# Altium schematic symbol library stm_copter.SchLib: 36 symbols
Pins are listed as number, name and electrical type; pins without a type are passive.

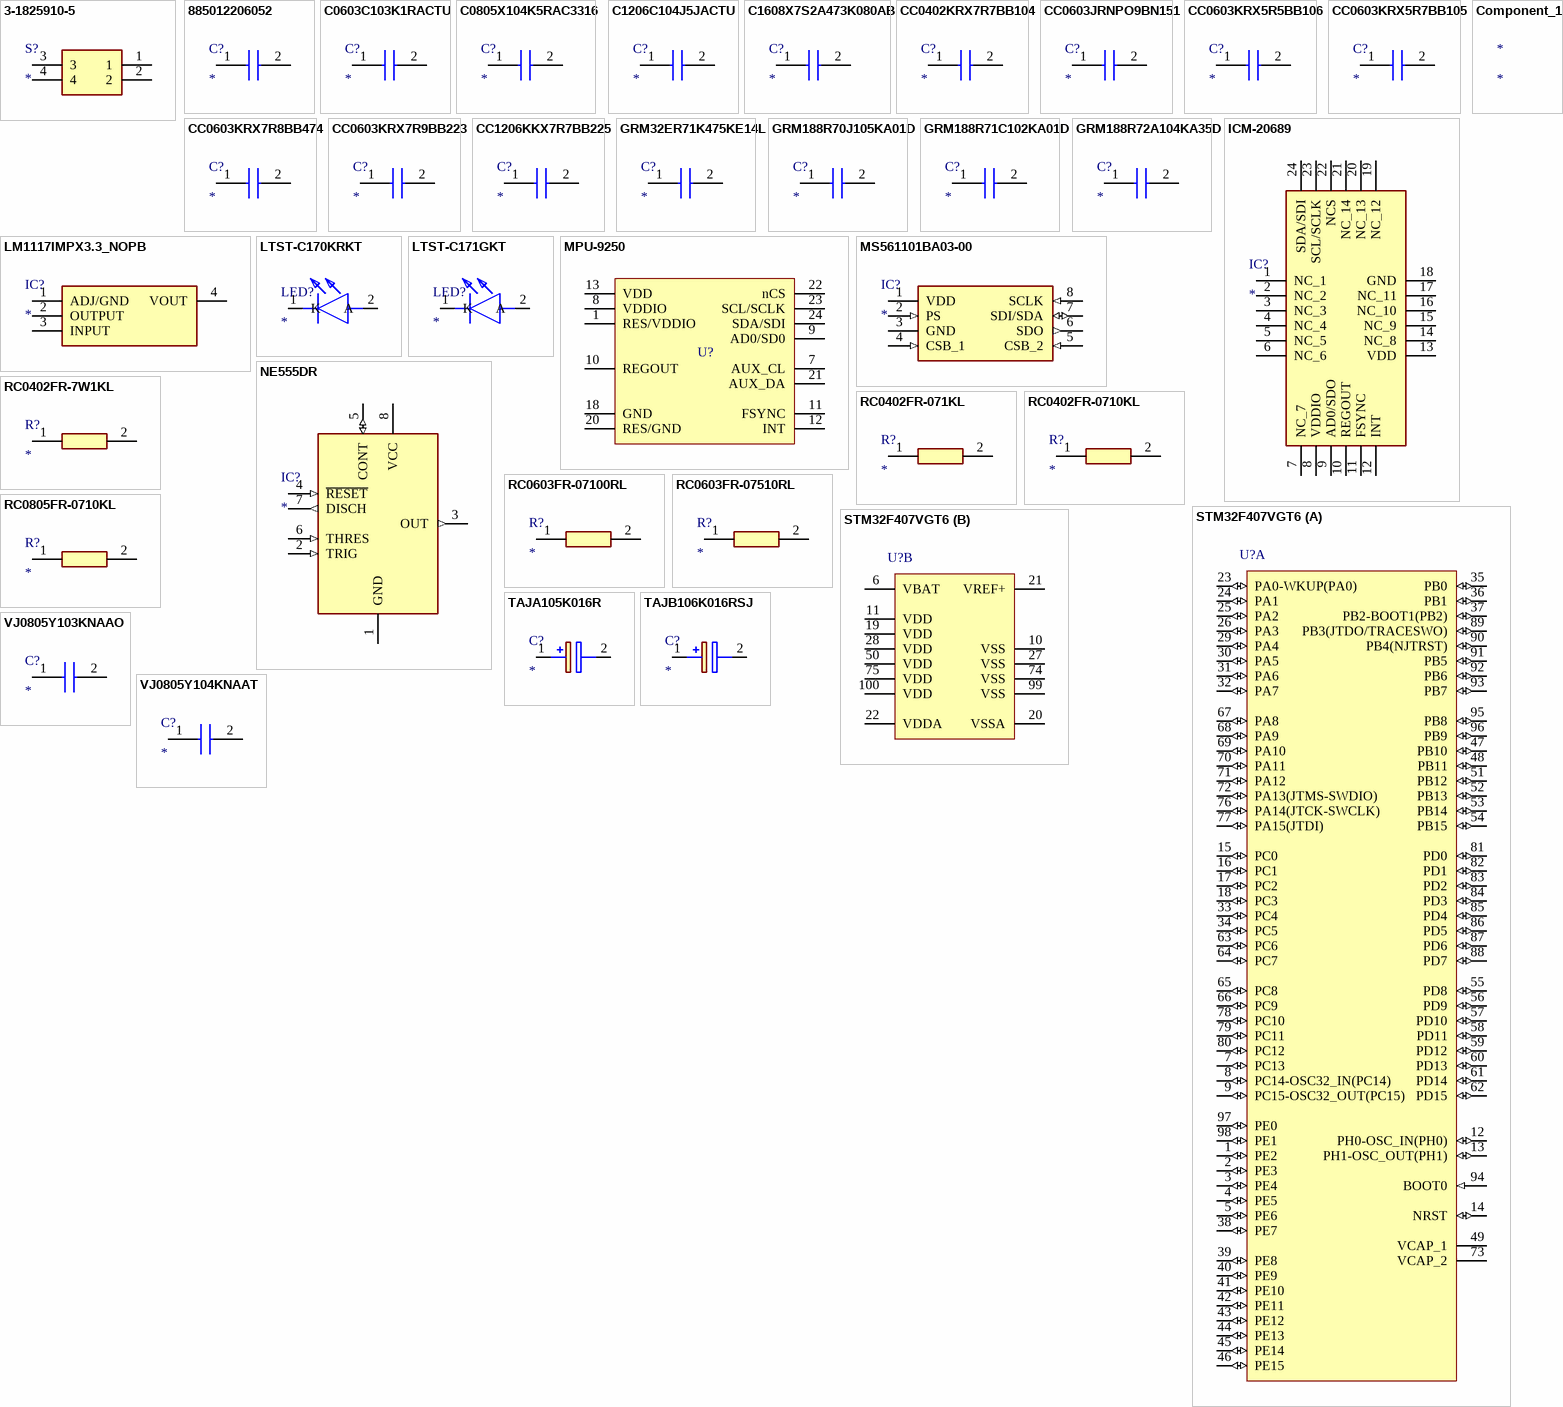
[diagram p0: symbols 3-1825910-5 to VJ0805Y104KNAAT]

## 3-1825910-5
designator S?
Switch; Manufacturer_Name: TE Connectivity; Manufacturer_Part_Number: 3-1825910-5; Allied_Number: R1117785; Datasheet Link: http://www.te.com/commerce/DocumentDelivery/DDEController?Action=srchrtrv&DocNm=1825910&DocType=Customer+Drawing&DocLang=English&DocFormat=pdf&PartCntxt=3-1825910-5; Mouser Part Number: N/A; Mouser Price/Stock: https://www.mouser.com/Search/Refine.aspx?Keyword=N%2FA; RS Part Number: 4791485; RS Price/Stock: https://uk.rs-online.com/web/p/products/4791485; Allied Price/Stock: http://www.alliedelec.com/te-connectivity-3-1825910-5/R1117785/
footprint 3-1825910-5
pins: 1, 2, 3, 4

## 885012206052
designator C?
Capacitor; Manufacturer_Name: Wurth Elektronik; Manufacturer_Part_Number: 885012206052; Datasheet Link: https://katalog.we-online.com/pbs/datasheet/885012206052.pdf; Height: 0.87mm; Mouser Part Number: 710-885012206052; Mouser Price/Stock: https://www.mouser.com/Search/Refine.aspx?Keyword=710-885012206052; RS Part Number: 8392833P; RS Price/Stock: http://uk.rs-online.com/web/p/products/8392833P
footprint CAPC1608X87N
pins: 1, 2

## C0603C103K1RACTU
designator C?
Capacitor; Manufacturer_Name: Kemet; Manufacturer_Part_Number: C0603C103K1RACTU; Allied_Number: 70096965; Mouser Part Number: 80-C0603C103K1R; Mouser Price/Stock: https://www.mouser.com/Search/Refine.aspx?Keyword=80-C0603C103K1R; RS Part Number: 8015378; RS Price/Stock: https://uk.rs-online.com/web/p/products/8015378; Allied Price/Stock: https://www.alliedelec.com/kemet-c0603c103k1ractu/70096965/
footprint CAPC1608X85N
pins: 1 C1, 2 C2

## C0805X104K5RAC3316
designator C?
Capacitor; Manufacturer_Name: Kemet; Manufacturer_Part_Number: C0805X104K5RAC3316; Allied_Number: 71763471; Datasheet Link: https://content.kemet.com/datasheets/KEM_C1013_X7R_FT-CAP_SMD.pdf; Height: 0.98mm; Mouser Part Number: 80-C0805X104K5R3316; Mouser Price/Stock: https://www.mouser.com/Search/Refine.aspx?Keyword=80-C0805X104K5R3316; RS Part Number: 1882180; RS Price/Stock: http://uk.rs-online.com/web/p/products/1882180; Allied Price/Stock: https://www.alliedelec.com/kemet-c0805x104k5rac3316/71763471/
footprint CAPC2012X98N
pins: 1, 2

## C1206C104J5JACTU
designator C?
Capacitor; Manufacturer_Name: Kemet; Manufacturer_Part_Number: C1206C104J5JACTU; Datasheet Link: https://api.kemet.com/component-edge/download/datasheet/C1206C104J5JACTU.pdf; Height: 1.35mm; Mouser Part Number: 80-C1206C104J5J; Mouser Price/Stock: https://www.mouser.com/Search/Refine.aspx?Keyword=80-C1206C104J5J; RS Part Number: 1392865P; RS Price/Stock: http://uk.rs-online.com/web/p/products/1392865P
footprint CAPC3216X135N
pins: 1, 2

## C1608X7S2A473K080AB
designator C?
Capacitor; Manufacturer_Name: TDK; Manufacturer_Part_Number: C1608X7S2A473K080AB; Datasheet Link: https://product.tdk.com/info/en/catalog/datasheets/mlcc_commercial_midvoltage_en.pdf; Height: 0.8mm; Mouser Part Number: 810-C1608X7S2A473K; Mouser Price/Stock: https://www.mouser.com/Search/Refine.aspx?Keyword=810-C1608X7S2A473K; RS Part Number: 9040259P; RS Price/Stock: http://uk.rs-online.com/web/p/products/9040259P
footprint CAPC1608X80N
pins: 1, 2

## CC0402KRX7R7BB104
designator C?
Capacitor; Manufacturer_Name: YAGEO (PHYCOMP); Manufacturer_Part_Number: CC0402KRX7R7BB104; Datasheet Link: http://www.datasheets360.com/pdf/-5354154806277341459; Height: 0.55mm; Mouser Part Number: 603-CC402KRX7R7BB104; Mouser Price/Stock: https://www.mouser.com/Search/Refine.aspx?Keyword=603-CC402KRX7R7BB104; RS Part Number: 6169701; RS Price/Stock: http://uk.rs-online.com/web/p/products/6169701
footprint CAPC1005X55N
pins: 1, 2

## CC0603JRNPO9BN151
designator C?
Capacitor; Manufacturer_Name: YAGEO (PHYCOMP); Manufacturer_Part_Number: CC0603JRNPO9BN151; Datasheet Link: https://componentsearchengine.com/Datasheets/2/CC0603JRNPO9BN151.pdf; Height: 0.9mm; Mouser Part Number: 603-CC603JRNPO9BN151; Mouser Price/Stock: https://www.mouser.com/Search/Refine.aspx?Keyword=603-CC603JRNPO9BN151; RS Part Number: 6250251; RS Price/Stock: https://uk.rs-online.com/web/p/products/6250251
footprint CAPC1608X90N
pins: 1, 2

## CC0603KRX5R5BB106
designator C?
Capacitor; Manufacturer_Name: YAGEO (PHYCOMP); Manufacturer_Part_Number: CC0603KRX5R5BB106; Datasheet Link: http://www.yageo.com/documents/recent/UPY-GPHC_X5R_4V-to-50V_25.pdf; Height: 0.95mm; Mouser Part Number: 603-CC603KRX5R5BB106; Mouser Price/Stock: https://www.mouser.com/Search/Refine.aspx?Keyword=603-CC603KRX5R5BB106
footprint CAPC1608X95N
pins: 1, 2

## CC0603KRX5R7BB105
designator C?
Capacitor; Manufacturer_Name: YAGEO (PHYCOMP); Manufacturer_Part_Number: CC0603KRX5R7BB105; Datasheet Link: https://componentsearchengine.com/Datasheets/2/CC0603KRX5R7BB105.pdf; Height: 0.9mm; Mouser Part Number: 603-CC603KRX5R7BB105; Mouser Price/Stock: https://www.mouser.com/Search/Refine.aspx?Keyword=603-CC603KRX5R7BB105
footprint CAPC1608X90N
pins: 1, 2

## CC0603KRX7R8BB474
designator C?
Capacitor; Manufacturer_Name: YAGEO (PHYCOMP); Manufacturer_Part_Number: CC0603KRX7R8BB474; Datasheet Link: https://www.mouser.com/datasheet/2/447/UPY-GPHC_X7R_6.3V-to-50V_18-1154002.pdf; Height: 0.9mm; Mouser Part Number: 603-CC603KRX7R8BB474; Mouser Price/Stock: https://www.mouser.com/Search/Refine.aspx?Keyword=603-CC603KRX7R8BB474
footprint CAPC1608X90N
pins: 1, 2

## CC0603KRX7R9BB223
designator C?
Capacitor; Manufacturer_Name: YAGEO (PHYCOMP); Manufacturer_Part_Number: CC0603KRX7R9BB223; Mouser Part Number: 603-CC603KRX7R9BB223; Mouser Price/Stock: https://www.mouser.com/Search/Refine.aspx?Keyword=603-CC603KRX7R9BB223
footprint CAPC1608X90N
pins: 1 C1, 2 C2

## CC1206KKX7R7BB225
designator C?
Capacitor; Manufacturer_Name: YAGEO (PHYCOMP); Manufacturer_Part_Number: CC1206KKX7R7BB225; Datasheet Link: https://componentsearchengine.com/Datasheets/1/CC1206KKX7R7BB225.pdf; Height: 1.25mm; Mouser Part Number: 603-CC126KKX7R7BB225; Mouser Price/Stock: https://www.mouser.com/Search/Refine.aspx?Keyword=603-CC126KKX7R7BB225; RS Part Number: 6698454P; RS Price/Stock: http://uk.rs-online.com/web/p/products/6698454P
footprint CAPC3216X125N
pins: 1, 2

## Component_1
designator *

## GRM32ER71K475KE14L
designator C?
Capacitor; Manufacturer_Name: Murata Electronics; Manufacturer_Part_Number: GRM32ER71K475KE14L; Datasheet Link: http://psearch.en.murata.com/capacitor/product/GRM32ER71E226KE15%23.pdf; Height: 2.7mm; Mouser Part Number: 81-GRM32ER71K475KE4L; Mouser Price/Stock: https://www.mouser.com/Search/Refine.aspx?Keyword=81-GRM32ER71K475KE4L; RS Part Number: 8851972P; RS Price/Stock: http://uk.rs-online.com/web/p/products/8851972P
footprint CAPC3225X270N
pins: 1, 2

## GRM188R70J105KA01D
designator C?
Capacitor; Manufacturer_Name: Murata Electronics; Manufacturer_Part_Number: GRM188R70J105KA01D; Datasheet Link: http://www.murata.com/~/media/webrenewal/support/library/catalog/products/capacitor/mlcc/c02e.pdf; Height: 0.9mm; Mouser Part Number: 81-GRM188R70J105KA01; Mouser Price/Stock: https://www.mouser.com/Search/Refine.aspx?Keyword=81-GRM188R70J105KA01; RS Part Number: 7492065P; RS Price/Stock: http://uk.rs-online.com/web/p/products/7492065P
footprint CAPC1608X90N
pins: 1, 2

## GRM188R71C102KA01D
designator C?
Capacitor; Manufacturer_Name: Murata Electronics; Manufacturer_Part_Number: GRM188R71C102KA01D; Datasheet Link: http://www.murata.com/~/media/webrenewal/support/library/catalog/products/capacitor/mlcc/c02e.pdf; Height: 0.9mm; Mouser Part Number: 81-GRM188R71C102KA1D; Mouser Price/Stock: https://www.mouser.com/Search/Refine.aspx?Keyword=81-GRM188R71C102KA1D; RS Part Number: 8836945; RS Price/Stock: https://uk.rs-online.com/web/p/products/8836945
footprint CAPC1608X90N
pins: 1, 2

## GRM188R72A104KA35D
designator C?
Capacitor; Manufacturer_Name: Murata Electronics; Manufacturer_Part_Number: GRM188R72A104KA35D; Datasheet Link: http://www.murata.com/~/media/webrenewal/support/library/catalog/products/capacitor/mlcc/c02e.pdf; Height: 0.9mm; Mouser Part Number: 81-GRM188R72A104KA35; Mouser Price/Stock: https://www.mouser.com/Search/Refine.aspx?Keyword=81-GRM188R72A104KA35; RS Part Number: 7235742P; RS Price/Stock: http://uk.rs-online.com/web/p/products/7235742P
footprint CAPC1608X90N
pins: 1, 2

## ICM-20689
designator IC?
Integrated Circuit; Manufacturer_Name: InvenSense Inc.; Manufacturer_Part_Number: ICM-20689; Datasheet Link: http://www.invensense.com/wp-content/uploads/2017/08/ICM-20689-v2.2-002.pdf; Height: 1mm; Mouser Part Number: 410-ICM-20689; Mouser Price/Stock: https://www.mouser.com/Search/Refine.aspx?Keyword=410-ICM-20689
footprint ICM20689
pins: 1 NC_1, 2 NC_2, 3 NC_3, 4 NC_4, 5 NC_5, 6 NC_6, 7 NC_7, 8 VDDIO, 9 AD0/SDO, 10 REGOUT, 11 FSYNC, 12 INT, 13 VDD, 14 NC_8, 15 NC_9, 16 NC_10, 17 NC_11, 18 GND, 19 NC_12, 20 NC_13, 21 NC_14, 22 NCS, 23 SCL/SCLK, 24 SDA/SDI

## LM1117IMPX3.3_NOPB
designator IC?
Integrated Circuit; Manufacturer_Name: Texas Instruments; Manufacturer_Part_Number: LM1117IMPX3.3/NOPB; Datasheet Link: http://www.ti.com/lit/ds/symlink/lm1117.pdf; Height: 1.8mm
footprint SOT230P700X180-4N
pins: 1 ADJ/GND, 2 OUTPUT, 3 INPUT, 4 VOUT

## LTST-C170KRKT
designator LED?
LED; Manufacturer_Name: Lite-On; Manufacturer_Part_Number: LTST-C170KRKT; Datasheet Link: https://componentsearchengine.com/Datasheets/1/LTST-C170KRKT.pdf; Height: 1.2mm; Mouser Part Number: 859-LTST-C170KRKT; Mouser Price/Stock: https://www.mouser.com/Search/Refine.aspx?Keyword=859-LTST-C170KRKT; RS Part Number: 6920916P; RS Price/Stock: http://uk.rs-online.com/web/p/products/6920916P
footprint LEDC2012X120N
pins: 1 K, 2 A

## LTST-C171GKT
designator LED?
LED; Manufacturer_Name: Lite-On; Manufacturer_Part_Number: LTST-C171GKT; Datasheet Link: https://media.digikey.com/pdf/Data%20Sheets/Lite-On%20PDFs/LTST-C171GKT.pdf; Height: 0.9mm; Mouser Part Number: 859-LTST-C171GKT; Mouser Price/Stock: https://www.mouser.com/Search/Refine.aspx?Keyword=859-LTST-C171GKT; RS Part Number: 6920935P; RS Price/Stock: http://uk.rs-online.com/web/p/products/6920935P
footprint LEDC2012X90N
pins: 1 K, 2 A

## MPU-9250
designator U?  (value not drawn)
footprint QFN40P300X300X105_HS-25L (QFN, 24-Leads, Body 3.00x3.00mm, Pitch 0.40mm, Thermal Pad 1.70x1.54mm, IPC High Density)
pins: 1 RES/VDDIO, 7 AUX_CL, 8 VDDIO, 9 AD0/SD0, 10 REGOUT, 11 FSYNC, 12 INT, 13 VDD, 18 GND, 20 RES/GND, 21 AUX_DA, 22 nCS, 23 SCL/SCLK, 24 SDA/SDI

## MS561101BA03-00
designator IC?
Integrated Circuit; Manufacturer_Name: TE Connectivity; Manufacturer_Part_Number: MS561101BA03-00; Datasheet Link: http://www.amsys.info/sheets/amsys.en.ms5611_01ba03.pdf; Height: 1mm; Mouser Part Number: 824-MS561101BA03-00; Mouser Price/Stock: https://www.mouser.com/Search/Refine.aspx?Keyword=824-MS561101BA03-00; RS Part Number: 8937130; RS Price/Stock: http://uk.rs-online.com/web/p/products/8937130
footprint SON125P300X500X100-8N
footprint SOIC127P600X175-8N
pins: 1 VDD (power), 2 PS (in), 3 GND (power), 4 CSB_1 (in), 5 CSB_2 (in), 6 SDO (out), 7 SDI/SDA (io), 8 SCLK (in)

## NE555DR
designator IC?
Integrated Circuit; Manufacturer_Name: Texas Instruments; Manufacturer_Part_Number: NE555DR; Datasheet Link: http://www.ti.com/lit/ds/symlink/ne555.pdf; Height: 1.75mm; Mouser Part Number: 595-NE555DR; Mouser Price/Stock: https://www.mouser.com/Search/Refine.aspx?Keyword=595-NE555DR; RS Part Number: 1218414; RS Price/Stock: http://uk.rs-online.com/web/p/products/1218414
footprint SOIC127P600X175-8N
pins: 1 GND (power), 2 TRIG (in), 3 OUT (out), 4 ~{RESET} (in), 5 CONT (io), 6 THRES (in), 7 DISCH (out), 8 VCC (power)

## RC0402FR-7W1KL
designator R?
Resistor; Manufacturer_Name: YAGEO (PHYCOMP); Manufacturer_Part_Number: RC0402FR-7W1KL; Datasheet Link: http://www.yageo.com/documents/recent/PYu-RC0402_51_RoHS_L_6_r.pdf; Height: 0.4mm; Mouser Part Number: 603-RC0402FR-7W1KL; Mouser Price/Stock: https://www.mouser.com/Search/Refine.aspx?Keyword=603-RC0402FR-7W1KL
footprint RESC1005X40N
pins: 1, 2

## RC0402FR-071KL
designator R?
Resistor; Manufacturer_Name: YAGEO (PHYCOMP); Manufacturer_Part_Number: RC0402FR-071KL; Datasheet Link: http://www.yageo.com/documents/recent/PYu-RC0402_51_RoHS_L_6_r.pdf; Height: 0.4mm; Mouser Part Number: 603-RC0402FR-071KL; Mouser Price/Stock: https://www.mouser.com/Search/Refine.aspx?Keyword=603-RC0402FR-071KL; RS Part Number: 6186122; RS Price/Stock: http://uk.rs-online.com/web/p/products/6186122
footprint RESC1005X40N
pins: 1, 2

## RC0402FR-0710KL
designator R?
Resistor; Manufacturer_Name: YAGEO (PHYCOMP); Manufacturer_Part_Number: RC0402FR-0710KL; Datasheet Link: http://www.yageo.com/documents/recent/PYu-RC0402_51_RoHS_L_6_r.pdf; Height: 0.4mm; Mouser Part Number: 603-RC0402FR-0710KL; Mouser Price/Stock: https://www.mouser.com/Search/Refine.aspx?Keyword=603-RC0402FR-0710KL; RS Part Number: 6185832; RS Price/Stock: http://uk.rs-online.com/web/p/products/6185832
footprint RESC1005X40N
pins: 1, 2

## RC0603FR-07100RL
designator R?
Resistor; Manufacturer_Name: YAGEO (PHYCOMP); Manufacturer_Part_Number: RC0603FR-07100RL; Datasheet Link: http://www.yageo.com/documents/recent/PYu-RC0603_51_RoHS_L_v5.pdf; Height: 0.55mm; Mouser Part Number: 603-RC0603FR-07100RL; Mouser Price/Stock: https://www.mouser.com/Search/Refine.aspx?Keyword=603-RC0603FR-07100RL; RS Part Number: 5048912; RS Price/Stock: http://uk.rs-online.com/web/p/products/5048912
footprint RESC1608X55N
pins: 1, 2

## RC0603FR-07510RL
designator R?
Resistor; Manufacturer_Name: YAGEO (PHYCOMP); Manufacturer_Part_Number: RC0603FR-07510RL; Datasheet Link: http://www.yageo.com/documents/recent/PYu-RC0603_51_RoHS_L_v5.pdf; Height: 0.55mm; Mouser Part Number: 603-RC0603FR-07510RL; Mouser Price/Stock: https://www.mouser.com/Search/Refine.aspx?Keyword=603-RC0603FR-07510RL; RS Part Number: 5047571; RS Price/Stock: http://uk.rs-online.com/web/p/products/5047571
footprint RESC1608X55N
pins: 1, 2

## RC0805FR-0710KL
designator R?
Resistor; Manufacturer_Name: YAGEO (PHYCOMP); Manufacturer_Part_Number: RC0805FR-0710KL; Datasheet Link: http://www.yageo.com/documents/recent/PYu-RC_Group_51_RoHS_L_10.pdf; Height: 0.6mm; Mouser Part Number: 603-RC0805FR-0710KL; Mouser Price/Stock: https://www.mouser.com/Search/Refine.aspx?Keyword=603-RC0805FR-0710KL; RS Part Number: 6185163; RS Price/Stock: http://uk.rs-online.com/web/p/products/6185163
footprint RESC2012X60N
pins: 1, 2

## STM32F407VGT6
designator U?
ARM Cortex-M4 32-bit MCU+FPU, 210 DMIPS, 1024 kB Flash, 192 kB Internal RAM, 82 I/Os, 100-pin LQFP, -40 to 85 degC, Tray; Manufacturer: STMicroelectronics; PartNumber: STM32F407VGT6; D/A Converter: 2x12-bit; FLASH Size (Prog) (kB): 1024; I/Os (High Current): 82; Internal RAM Size (kB): 192; Operating Frequency(F) (Processor speed) (MHz): 168; Supply Voltage(Vcc) max (V): 3.6; Supply Voltage(Vcc) min (V): 1.8; DatasheetVersion: Rev. 4; PackageVersion: Rev. 1, 06/2013; PackageReference: LQFP100; PackageDescription: 100-Pin Low Profile Quad Flat Package, 14 x 14 mm Body, 0.5 mm Pitch; Supplier 1: Digi-Key; Supplier Part Number 1: 497-11605-ND; Supplier 2: Farnell; Supplier Part Number 2: 2064368; Supplier 3: Newark; Supplier Part Number 3: 73T2333; Supplier 4: Mouser; Supplier Part Number 4: 511-STM32F407VGT6; Core: ARM Cortex-M4; Packing: Tray; Mounting Technology: Surface Mount; ComponentLink1Description: Manufacturer URL; ComponentLink1URL: http://www.st.com/web/en/home.html; ComponentLink2Description: Datasheet; ComponentLink2URL: http://www.st.com/st-web-ui/static/active/en/resource/technical/document/datasheet/DM00037051.pdf; ComponentLink3Description: Package Specification; ComponentLink3URL: http://www.st.com/st-web-ui/static/active/en/resource/technical/document/data_brief/DM00071938.pdf
footprint STM-LQFP100_L (Thin QFP, 100-Leads, Body 14x14mm, Pitch 0.5mm, IPC High Density)
footprint STM-LQFP100_L (Thin QFP, 100-Leads, Body 14x14mm, Pitch 0.5mm, IPC High Density)
footprint STM-LQFP100_M (Thin QFP, 100-Leads, Body 14x14mm, Pitch 0.5mm, IPC Low Density)
footprint STM-LQFP100_V (Thin QFP, 100-Leads, Body 14x14mm, Pitch 0.5mm, ST Recommended)
part A pins: 1 PE2 (io) "PE2/TRACECLK/FSMC_A23/ETH_MII_TXD3/EVENTOUT", 2 PE3 (io) "PE3/TRACED0/FSMC_A19/EVENTOUT", 3 PE4 (io) "PE4/TRACED1/FSMC_A20/DCMI_D4/EVENTOUT", 4 PE5 (io) "PE5/TRACED2/FSMC_A21/TIM9_CH1/DCMI_D6/EVENTOUT", 5 PE6 (io) "PE6/TRACED3/FSMC_A22/TIM9_CH2/DCMI_D7/EVENTOUT", 7 PC13 (io) "PC13/EVENTOUT/RTC_OUT,RTC_TAMP1,RTC_TS", 8 PC14-OSC32_IN(PC14) (io) "PC14-OSC32_IN(PC14)/EVENTOUT/OSC32_IN", 9 PC15-OSC32_OUT(PC15) (io) "PC15-OSC32_OUT(PC15)/EVENTOUT/OSC32_OUT", 12 PH0-OSC_IN(PH0) (io) "PH0-OSC_IN(PH0)/EVENTOUT/OSC_IN", 13 PH1-OSC_OUT(PH1) (io) "PH1-OSC_OUT(PH1)/EVENTOUT/OSC_OUT", 14 NRST (io), 15 PC0 (io) "PC0/OTG_HS_ULPI_STP/EVENTOUT/ADC123_IN10", 16 PC1 (io) "PC1/ETH_MDC/EVENTOUT/ADC123_IN11", 17 PC2 (io) "PC2/SPI2_MISO/OTG_HS_ULPI_DIR/ETH_MII_TXD2/I2S2ext_SD/EVENTOUT/ADC123_IN12", 18 PC3 (io) "PC3/SPI2_MOSI/I2S2_SD/OTG_HS_ULPI_NXT/ETH_MII_TX_CLK/EVENTOUT/ADC123_IN13", 23 PA0-WKUP(PA0) (io) "PA0-WKUP(PA0)/USART2_CTS/UART4_TX/ETH_MII_CRS/TIM2_CH1_ETR/TIM5_CH1/TIM8_ETR/EVENTOUT/ADC123_IN0/WKUP", 24 PA1 (io) "PA1/USART2_RTS/UART4_RX/ETH_RMII_REF_CLK/ETH_MII_RX_CLK/TIM5_CH2/TIM2_CH2/EVENTOUT/ADC123_IN1", 25 PA2 (io) "PA2/USART2_TX/TIM5_CH3/TIM9_CH1/TIM2_CH3/ETH_MDIO/EVENTOUT/ADC123_IN2", 26 PA3 (io) "PA3/USART2_RX/TIM5_CH4/TIM9_CH2/TIM2_CH4/OTG_HS_ULPI_D0/ETH_MII_COL/EVENTOUT/ADC123_IN3", 29 PA4 (io) "PA4/SPI1_NSS/SPI3_NSS/USART2_CK/DCMI_HSYNC/OTG_HS_SOF/I2S3_WS/EVENTOUT/ADC12_IN4/DAC_OUT1", 30 PA5 (io) "PA5/SPI1_SCK/OTG_HS_ULPI_CK/TIM2_CH1_ETR/TIM8_CH1N/EVENTOUT/ADC12_IN5/DAC_OUT2", 31 PA6 (io) "PA6/SPI1_MISO/TIM8_BKIN/TIM13_CH1/DCMI_PIXCLK/TIM3_CH1/TIM1_BKIN/EVENTOUT/ADC12_IN6", 32 PA7 (io) "PA7/SPI1_MOSI/TIM8_CH1N/TIM14_CH1/TIM3_CH2/ETH_MII_RX_DV/TIM1_CH1N/ETH_RMII_CRS_DV/EVENTOUT/ADC12_IN7", 33 PC4 (io) "PC4/ETH_RMII_RX_D0/ETH_MII_RX_D0/EVENTOUT/ADC12_IN14", 34 PC5 (io) "PC5/ETH_RMII_RX_D1/ETH_MII_RX_D1/EVENTOUT/ADC12_IN15", 35 PB0 (io) "PB0/TIM3_CH3/TIM8_CH2N/OTG_HS_ULPI_D1/ETH_MII_RXD2/TIM1_CH2N/EVENTOUT/ADC12_IN8", 36 PB1 (io) "PB1/TIM3_CH4/TIM8_CH3N/OTG_HS_ULPI_D2/ETH_MII_RXD3/TIM1_CH3N/EVENTOUT/ADC12_IN9", 37 PB2-BOOT1(PB2) (io) "PB2-BOOT1(PB2)/EVENTOUT", 38 PE7 (io) "PE7/FSMC_D4/TIM1_ETR/EVENTOUT", 39 PE8 (io) "PE8/FSMC_D5/TIM1_CH1N/EVENTOUT", 40 PE9 (io) "PE9/FSMC_D6/TIM1_CH1/EVENTOUT", 41 PE10 (io) "PE10/FSMC_D7/TIM1_CH2N/EVENTOUT", 42 PE11 (io) "PE11/FSMC_D8/TIM1_CH2/EVENTOUT", 43 PE12 (io) "PE12/FSMC_D9/TIM1_CH3N/EVENTOUT", 44 PE13 (io) "PE13/FSMC_D10/TIM1_CH3/EVENTOUT", 45 PE14 (io) "PE14/FSMC_D11/TIM1_CH4/EVENTOUT", 46 PE15 (io) "PE15/FSMC_D12/TIM1_BKIN/EVENTOUT", 47 PB10 (io) "PB10/SPI2_SCK/I2S2_CK/I2C2_SCL/USART3_TX/OTG_HS_ULPI_D3/ETH_MII_RX_ER/TIM2_CH3/EVENTOUT", 48 PB11 (io) "PB11/I2C2_SDA/USART3_RX/OTG_HS_ULPI_D4/ETH_RMII_TX_EN/ETH_MII_TX_EN/TIM2_CH4/EVENTOUT", 49 VCAP_1 (power), 51 PB12 (io) "PB12/SPI2_NSS/I2S2_WS/I2C2_SMBA/USART3_CK/TIM1_BKIN/CAN2_RX/OTG_HS_ULPI_D5/ETH_RMII_TXD0/ETH_MII_TXD0/OTG_HS_ID/EVENTOUT", 52 PB13 (io) "PB13/SPI2_SCK/I2S2_CK/USART3_CTS/TIM1_CH1N/CAN2_TX/OTG_HS_ULPI_D6/ETH_RMII_TXD1/ETH_MII_TXD1/EVENTOUT/OTG_HS_VBUS", 53 PB14 (io) "PB14/SPI2_MISO/TIM1_CH2N/TIM12_CH1/OTG_HS_DM/USART3_RTS/TIM8_CH2N/I2S2ext_SD/EVENTOUT", 54 PB15 (io) "PB15/SPI2_MOSI/I2S2_SD/TIM1_CH3N/TIM8_CH3N/TIM12_CH2/OTG_HS_DP/EVENTOUT/RTC_REFIN", 55 PD8 (io) "PD8/FSMC_D13/USART3_TX/EVENTOUT", 56 PD9 (io) "PD9/FSMC_D14/USART3_RX/EVENTOUT", 57 PD10 (io) "PD10/FSMC_D15/USART3_CK/EVENTOUT", 58 PD11 (io) "PD11/FSMC_CLE/FSMC_A16/USART3_CTS/EVENTOUT", 59 PD12 (io) "PD12/FSMC_ALE/FSMC_A17/TIM4_CH1/USART3_RTS/EVENTOUT", 60 PD13 (io) "PD13/FSMC_A18/TIM4_CH2/EVENTOUT", 61 PD14 (io) "PD14/FSMC_D0/TIM4_CH3/EVENTOUT", 62 PD15 (io) "PD15/FSMC_D1/TIM4_CH4/EVENTOUT", 63 PC6 (io) "PC6/I2S2_MCK/TIM8_CH1/SDIO_D6/USART6_TX/DCMI_D0/TIM3_CH1/EVENTOUT", 64 PC7 (io) "PC7/I2S3_MCK/TIM8_CH2/SDIO_D7/USART6_RX/DCMI_D1/TIM3_CH2/EVENTOUT", 65 PC8 (io) "PC8/TIM8_CH3/SDIO_D0/TIM3_CH3/USART6_CK/DCMI_D2/EVENTOUT", 66 PC9 (io) "PC9/I2S_CKIN/MCO2/TIM8_CH4/SDIO_D1/I2C3_SDA/DCMI_D3/TIM3_CH4/EVENTOUT", 67 PA8 (io) "PA8/MCO1/USART1_CK/TIM1_CH1/I2C3_SCL/OTG_FS_SOF/EVENTOUT", 68 PA9 (io) "PA9/USART1_TX/TIM1_CH2/I2C3_SMBA/DCMI_D0/EVENTOUT/OTG_FS_VBUS", 69 PA10 (io) "PA10/USART1_RX/TIM1_CH3/OTG_FS_ID/DCMI_D1/EVENTOUT", 70 PA11 (io) "PA11/USART1_CTS/CAN1_RX/TIM1_CH4/OTG_FS_DM/EVENTOUT", 71 PA12 (io) "PA12/USART1_RTS/CAN1_TX/TIM1_ETR/OTG_FS_DP/EVENTOUT", 72 PA13(JTMS-SWDIO) (io) "PA13(JTMS-SWDIO)/JTMS-SWDIO/EVENTOUT", 73 VCAP_2 (power), 76 PA14(JTCK-SWCLK) (io) "PA14(JTCK-SWCLK)/JTCK-SWCLK/EVENTOUT", 77 PA15(JTDI) (io) "PA15(JTDI)/JTDI/SPI3_NSS/I2S3_WS/TIM2_CH1_ETR/SPI1_NSS/EVENTOUT", 78 PC10 (io) "PC10/SPI3_SCK/I2S3_CK/UART4_TX/SDIO_D2/DCMI_D8/USART3_TX/EVENTOUT", 79 PC11 (io) "PC11/UART4_RX/SPI3_MISO/SDIO_D3/DCMI_D4/USART3_RX/I2S3ext_SD/EVENTOUT", 80 PC12 (io) "PC12/UART5_TX/SDIO_CK/DCMI_D9/SPI3_MOSI/I2S3_SD/USART3_CK/EVENTOUT", 81 PD0 (io) "PD0/FSMC_D2/CAN1_RX/EVENTOUT", 82 PD1 (io) "PD1/FSMC_D3/CAN1_TX/EVENTOUT", 83 PD2 (io) "PD2/TIM3_ETR/UART5_RX/SDIO_CMD/DCMI_D11/EVENTOUT", 84 PD3 (io) "PD3/FSMC_CLK/USART2_CTS/EVENTOUT", 85 PD4 (io) "PD4/FSMC_NOE/USART2_RTS/EVENTOUT", 86 PD5 (io) "PD5/FSMC_NWE/USART2_TX/EVENTOUT", 87 PD6 (io) "PD6/FSMC_NWAIT/USART2_RX/EVENTOUT", 88 PD7 (io) "PD7/USART2_CK/FSMC_NE1/FSMC_NCE2/EVENTOUT", 89 PB3(JTDO/TRACESWO) (io) "PB3(JTDO/TRACESWO)/JTDO/TRACESWO/SPI3_SCK/I2S3_CK/TIM2_CH2/SPI1_SCK/EVENTOUT", 90 PB4(NJTRST) (io) "PB4(NJTRST)/NJTRST/SPI3_MISO/TIM3_CH1/SPI1_MISO/I2S3ext_SD/EVENTOUT", 91 PB5 (io) "PB5/I2C1_SMBA/CAN2_RX/OTG_HS_ULPI_D7/ETH_PPS_OUT/TIM3_CH2/SPI1_MOSI/SPI3_MOSI/DCMI_D10/I2S3_SD/EVENTOUT", 92 PB6 (io) "PB6/I2C1_SCL/TIM4_CH1/CAN2_TX/DCMI_D5/USART1_TX/EVENTOUT", 93 PB7 (io) "PB7/I2C1_SDA/FSMC_NL/DCMI_VSYNC/USART1_RX/TIM4_CH2/EVENTOUT", 94 BOOT0 (in) "BOOT0/VPP", 95 PB8 (io) "PB8/TIM4_CH3/SDIO_D4/TIM10_CH1/DCMI_D6/ETH_MII_TXD3/I2C1_SCL/CAN1_RX/EVENTOUT", 96 PB9 (io) "PB9/SPI2_NSS/I2S2_WS/TIM4_CH4/TIM11_CH1/SDIO_D5/DCMI_D7/I2C1_SDA/CAN1_TX/EVENTOUT", 97 PE0 (io) "PE0/TIM4_ETR/FSMC_NBL0/DCMI_D2/EVENTOUT", 98 PE1 (io) "PE1/FSMC_NBL1/DCMI_D3/EVENTOUT"
part B pins: 6 VBAT (power), 10 VSS (power), 11 VDD (power), 19 VDD (power), 20 VSSA (power), 21 VREF+ (power), 22 VDDA (power), 27 VSS (power), 28 VDD (power), 50 VDD (power), 74 VSS (power), 75 VDD (power), 99 VSS (power), 100 VDD (power)

## TAJA105K016R
designator C?
Capacitor Polarised; Manufacturer_Name: AVX; Manufacturer_Part_Number: TAJA105K016R; Allied_Number: 70474975; Datasheet Link: http://www.farnell.com/datasheets/1680476.pdf; Height: 1.8mm; Mouser Part Number: 581-TAJA105K016R; Mouser Price/Stock: https://www.mouser.com/Search/Refine.aspx?Keyword=581-TAJA105K016R; RS Part Number: 6992804P; RS Price/Stock: http://uk.rs-online.com/web/p/products/6992804P; Allied Price/Stock: https://www.alliedelec.com/avx-taja105k016r/70474975/
footprint CAPPM3216X180N
pins: 1 +, 2 -

## TAJB106K016RSJ
designator C?
Capacitor Polarised; Manufacturer_Name: AVX; Manufacturer_Part_Number: TAJB106K016RSJ; Datasheet Link: http://datasheets.avx.com/TAJ.pdf; Height: 2.1mm; Mouser Part Number: 581-TAJB106K016RSJ; Mouser Price/Stock: https://www.mouser.com/Search/Refine.aspx?Keyword=581-TAJB106K016RSJ
footprint CAPPM3528X210N
pins: 1 +, 2 -

## VJ0805Y103KNAAO
designator C?
Capacitor; Manufacturer_Name: Vishay; Manufacturer_Part_Number: VJ0805Y103KNAAO; Allied_Number: 70397829; Datasheet Link: http://www.vishay.com/docs/45226/vj31xrohsautomlcc.pdf; Height: 1.45mm; Mouser Part Number: 77-VJ0805Y103KNAAO; Mouser Price/Stock: https://www.mouser.com/Search/Refine.aspx?Keyword=77-VJ0805Y103KNAAO; Allied Price/Stock: https://www.alliedelec.com/vishay-dale-vj0805y103knaao/70397829/
footprint CAPC2012X145N
pins: 1, 2

## VJ0805Y104KNAAT
designator C?
Capacitor; Manufacturer_Name: Vishay; Manufacturer_Part_Number: VJ0805Y104KNAAT; Allied_Number: 70397834; Datasheet Link: http://www.vishay.com/docs/45226/vj31xrohsautomlcc.pdf; Height: 1.45mm; Mouser Part Number: 77-VJ0805Y104KNAAT; Mouser Price/Stock: https://www.mouser.com/Search/Refine.aspx?Keyword=77-VJ0805Y104KNAAT; RS Part Number: 7512244; RS Price/Stock: https://uk.rs-online.com/web/p/products/7512244; Allied Price/Stock: https://www.alliedelec.com/vishay-dale-vj0805y104knaat/70397834/
footprint CAPC2012X145N
pins: 1, 2